# Altium schematic symbol library MOC3083.SCHLIB: 1 symbol
Pins are listed as number, name and electrical type; pins without a type are passive.

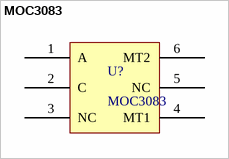
[diagram p0: symbol MOC3083]

## MOC3083
designator U?
pins: 1 A, 2 C, 3 NC, 4 MT1, 5 NC, 6 MT2